# Altium footprint library PCB - CONNECTOR - MOLEX - MOLEX 1053091104.PcbLib: 1 footprints
Each footprint in its own frame and in the unit in brackets; x right, y up, seen from the top. Pads: shape width x height; smd on the part's side, far side on the other; paste and mask are expansions set on the pad; w line width, h text height; cw(c..) or ccw(c..) is an arc to the next point about the centre after c.
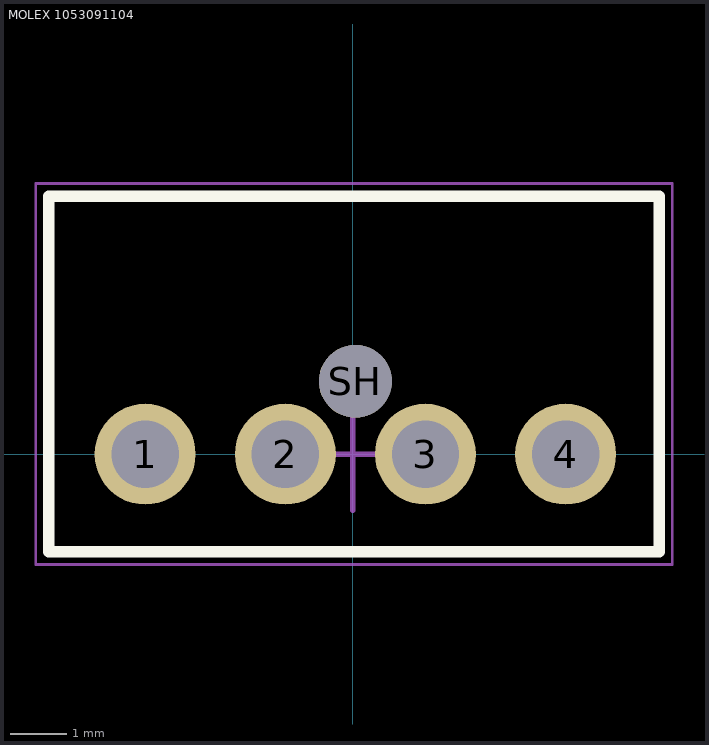
[diagram p0: the footprint, top view; thin cyan lines are the x and y axes]

## MOLEX 1053091104 [mm] "Connector Header Through Hole 4 position, 2mm Pitch, 10.89x6.34 mm Body"
height 10.51
pads (5):
  round 1.8 hole 1.2: 1(-3.7,0) 2(-1.2,0) 3(1.3,0) 4(3.8,0)
  round 1.3 hole 1.3: SH(0.05,1.3)
Top Overlay:
  lines w0.2: -5.42,-1.74 -5.42,4.6 5.47,4.6 5.47,-1.74 -5.42,-1.74
Mechanical 13:
  lines w0.1: -5.42,-1.74 -5.42,4.6 5.47,4.6 5.47,-1.74 -5.42,-1.74
Mechanical 15 (Mech15):
  lines w0.05: -5.65,-1.97 -5.65,4.83 5.7,4.83 5.7,-1.97 -5.65,-1.97
  lines w0.1: -1,0 0,0 ; 0,-1 0,0 ; 0,1 0,0 ; 1,0 0,0
3D body: height 10.51, standoff -3.2, extent -5.47,-1.74 5.47,4.6